# EAGLE library part PCF8591 (library micro-philips)
I2C-Bus D/A CONVERTER
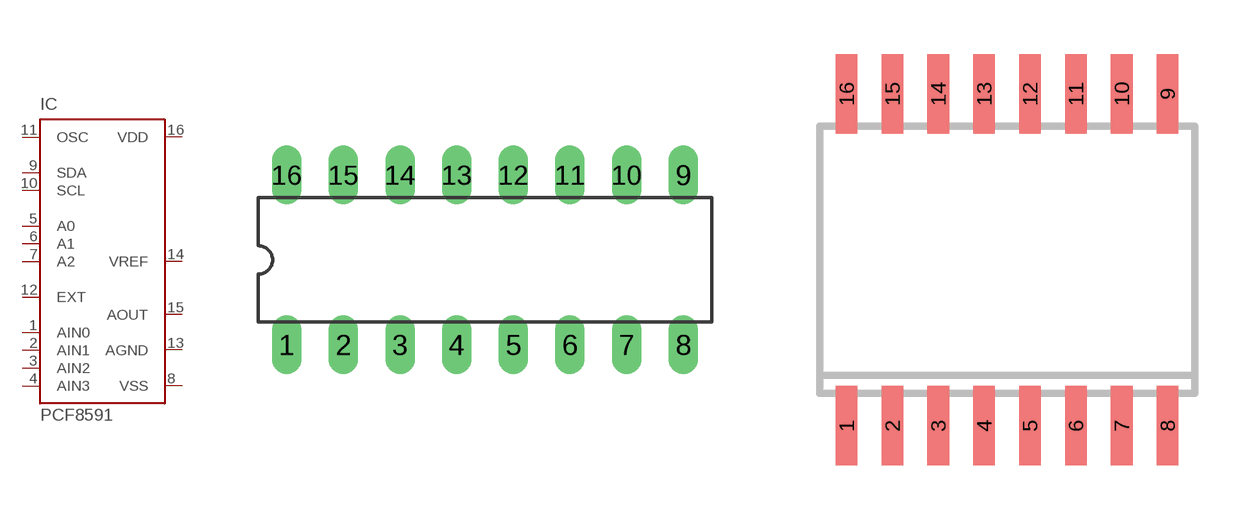
[diagram p29: symbol with the pads of DIL16; footprints DIL16, SO16W]

Designator prefix IC

## PCF8591P (MF: FARNELL; MPN: PCF8591P; OC_FARNELL: 396412; OC_NEWARK: 07WX3385)  [DIL16]
1  AIN0  in
2  AIN1  in
3  AIN2  in
4  AIN3  in
5  A0  in
6  A1  in
7  A2  in
8  VSS  pwr
9  SDA
10  SCL  in
11  OSC  in
12  EXT  in
13  AGND  pwr
14  VREF  in
15  AOUT  out
16  VDD  pwr

## PCF8591T (MPN: PCF8591T/2,512; OC_FARNELL: 1826767; OC_NEWARK: 70R6911)  [SO16W]
Pads as for DIL16

## Footprint DIL16 (pad centres in mm)
Dual In Line
drill 0.813 long: 1 -8.89,-3.81; 2 -6.35,-3.81; 3 -3.81,-3.81; 4 -1.27,-3.81; 5 1.27,-3.81; 6 3.81,-3.81; 7 6.35,-3.81; 8 8.89,-3.81; 9 8.89,3.81; 10 6.35,3.81; 11 3.81,3.81; 12 1.27,3.81; 13 -1.27,3.81; 14 -3.81,3.81; 15 -6.35,3.81; 16 -8.89,3.81

## Footprint SO16W (pad centres in mm)
Small Outline Package 7.6 x 10.6 mm
smd 0.6 x 2.2: 1 -4.445,-4.6; 2 -3.175,-4.6; 3 -1.905,-4.6; 4 -0.635,-4.6; 5 0.635,-4.6; 6 1.905,-4.6; 7 3.175,-4.6; 8 4.445,-4.6; 9 4.445,4.6; 10 3.175,4.6; 11 1.905,4.6; 12 0.635,4.6; 13 -0.635,4.6; 14 -1.905,4.6; 15 -3.175,4.6; 16 -4.445,4.6